# Altium schematic symbol library AUIPS7125R.SchLib: 1 symbol
Pins are listed as number, name and electrical type; pins without a type are passive.

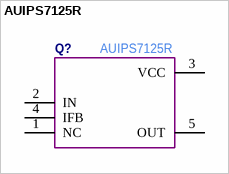
[diagram p0: symbol AUIPS7125R]

## AUIPS7125R
designator Q?  Manufacturer Part Number: AUIPS7125R  (hidden comment: *)
pins: 1 NC, 2 IN, 3 VCC, 4 IFB, 5 OUT